# Altium footprint library tuya_.PcbLib: 14 footprints
Each footprint in its own frame and in the unit in brackets; x right, y up, seen from the top. Pads: shape width x height; smd on the part's side, far side on the other; paste and mask are expansions set on the pad; w line width, h text height; cw(c..) or ccw(c..) is an arc to the next point about the centre after c.
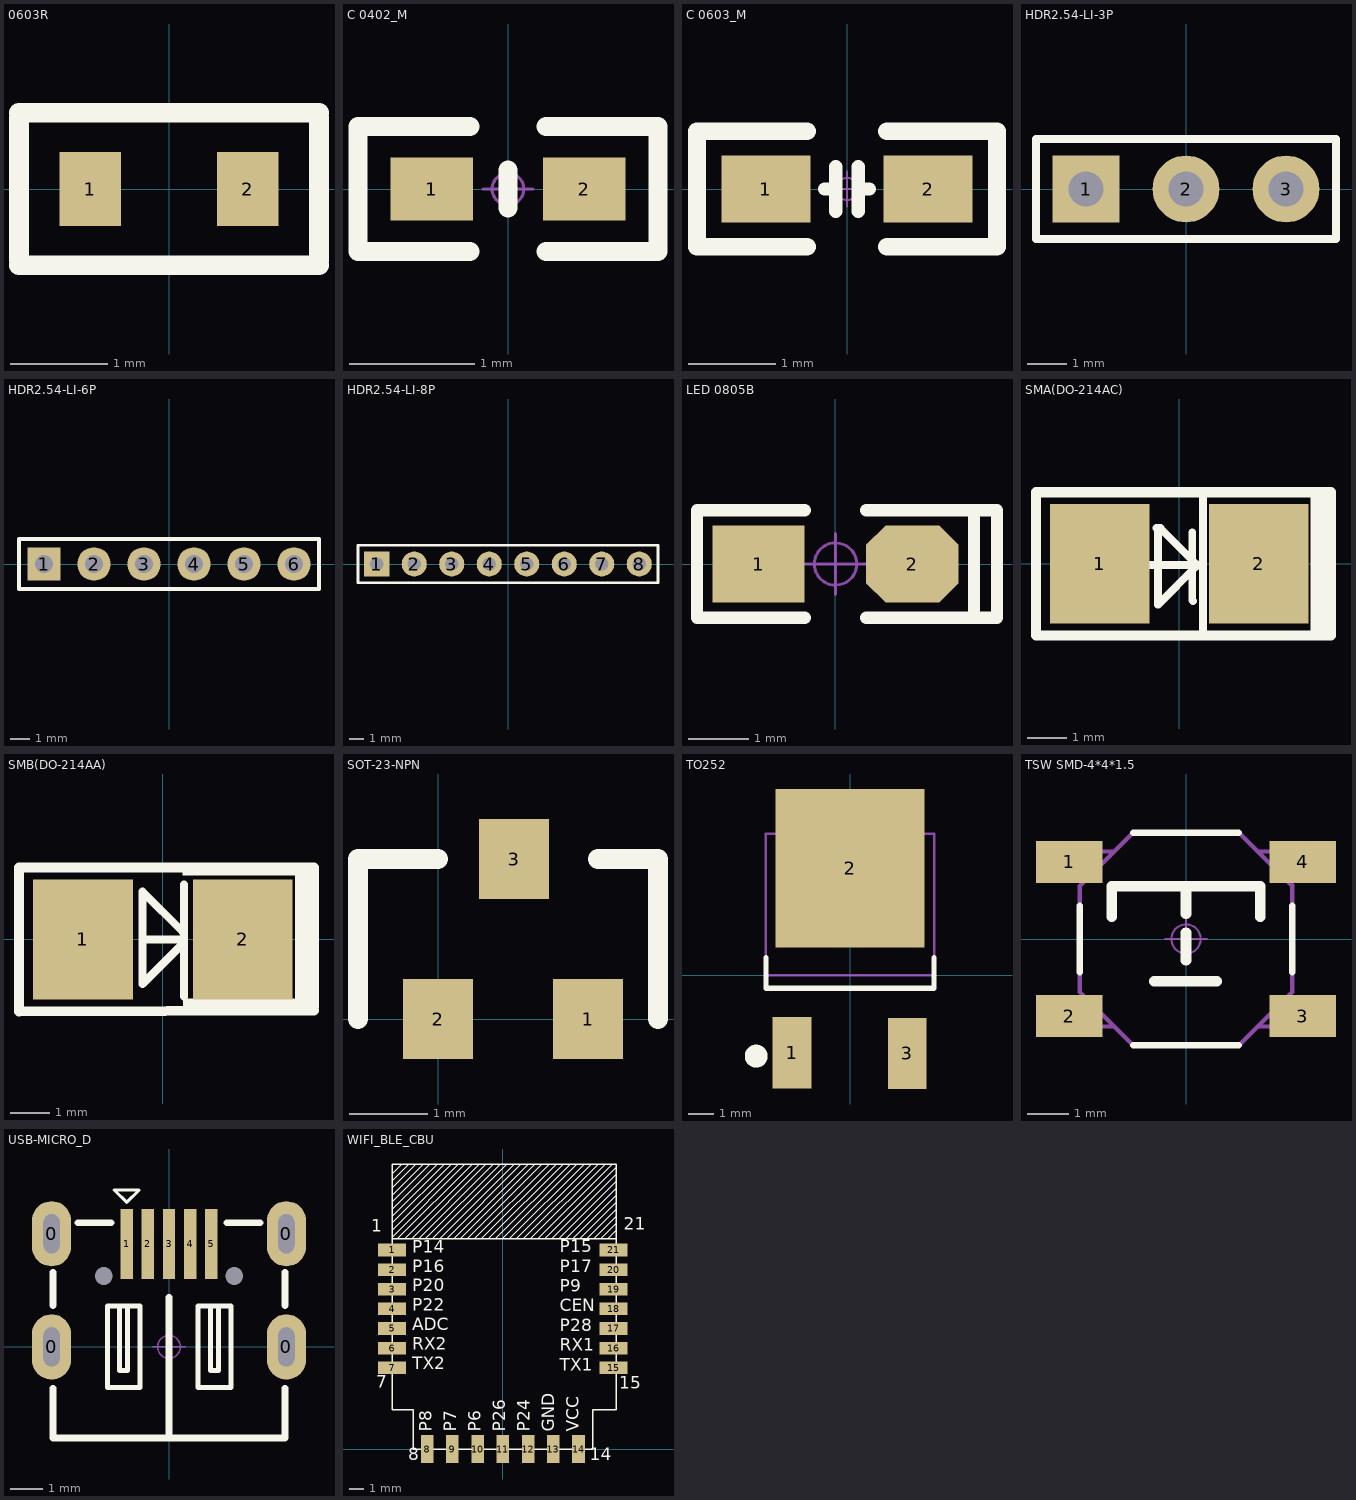
[diagram p0: the footprints below, top view; thin cyan lines are the x and y axes]

## 0603R [mil]
pads (2):
  rect 25x30 smd: 1(-32,0) 2(32,0)
Top Overlay:
  lines w8: -61,-31 13,-31 61,-31 ; -61,-29 -61,29 ; -61,31 13,31 61,31 ; 61,-29 61,29
3D body "R0603.STEP": height 17.72, standoff 0, extent -32.49,-15.74 30.5,15.75

## C 0402_M [mil] "无极性贴片电容"
pads (2):
  rect 26x20 smd: 1(-24,0) 2(24,0)
Top Overlay:
  lines w6: -12,-19.68 -47.24,-19.68 -47.24,19.68 -12,19.68 ; 0,-6 0,6 ; 12,-19.68 47.24,-19.68 47.24,19.68 12,19.68
Mechanical 15:
  circle w1: c0,0 r5
  lines w1: -7.87,0 7.87,0 ; 0,-7.87 0,7.87
3D body "C 0402.STEP": height 20.68, standoff 0.21, extent -19.69,-10.24 19.69,10.24

## C 0603_M [mil] "无极性贴片电容"
pads (2):
  rect 40x30 smd: 1(-36.5,0) 2(36.5,0)
Top Overlay:
  lines w6: -10,0 -5,0 ; -5,-10 -5,10 ; 5,-10 5,10 ; 5,0 10,0
  lines w8: -18,-26 -67.5,-26 -67.5,26 -18,26 ; 18,-26 67.5,-26 67.5,26 18,26
Mechanical 15:
  circle w1: c0,0 r5
  lines w1: -7.87,0 7.87,0 ; 0,-7.87 0,7.87
3D body "C 0603.STEP": height 31.89, standoff -0.39, extent -31.5,-16.14 31.5,16.14

## HDR2.54-LI-3P [mm] "排针，3脚"
pads (3):
  rect 1.7x1.7 hole 0.9: 1(-2.54,0)
  round 1.7 hole 0.9: 2(0,0) 3(2.54,0)
Top Overlay:
  lines w0.2: -3.81,-1.27 3.81,-1.27 3.81,1.27 -3.81,1.27 -3.81,-1.27
3D body "HDR2.54-1P.STEP": height 8.5, standoff -3, extent -3.81,-1.27 -1.27,1.27
3D body "HDR2.54-1P.STEP": height 8.5, standoff -3, extent -1.27,-1.27 1.27,1.27
3D body "HDR2.54-1P.STEP": height 8.5, standoff -3, extent 1.27,-1.27 3.81,1.27

## HDR2.54-LI-6P [mm] "排针，6脚"
pads (6):
  rect 1.7x1.7 hole 0.9: 1(-6.35,0)
  round 1.7 hole 0.9: 2(-3.81,0) 3(-1.27,0) 4(1.27,0) 5(3.81,0) 6(6.35,0)
Top Overlay:
  lines w0.2: -7.62,-1.27 7.62,-1.27 7.62,1.27 -7.62,1.27 -7.62,-1.27
3D body "HDR2.54-1P.STEP": height 8.5, standoff -3, extent -7.62,-1.27 -5.08,1.27
3D body "HDR2.54-1P.STEP": height 8.5, standoff -3, extent -5.08,-1.27 -2.54,1.27
3D body "HDR2.54-1P.STEP": height 8.5, standoff -3, extent -2.54,-1.27 0,1.27
3D body "HDR2.54-1P.STEP": height 8.5, standoff -3, extent 0,-1.27 2.54,1.27
3D body "HDR2.54-1P.STEP": height 8.5, standoff -3, extent 2.54,-1.27 5.08,1.27
3D body "HDR2.54-1P.STEP": height 8.5, standoff -3, extent 5.08,-1.27 7.62,1.27

## HDR2.54-LI-8P [mm] "排针，8脚"
pads (8):
  rect 1.7x1.7 hole 0.9: 1(-8.89,0)
  round 1.7 hole 0.9: 2(-6.35,0) 3(-3.81,0) 4(-1.27,0) 5(1.27,0) 6(3.81,0) 7(6.35,0) 8(8.89,0)
Top Overlay:
  lines w0.2: -10.16,-1.27 10.16,-1.27 10.16,1.27 -10.16,1.27 -10.16,-1.27
3D body "HDR2.54-1P.STEP": height 8.5, standoff -3, extent -10.16,-1.27 -7.62,1.27
3D body "HDR2.54-1P.STEP": height 8.5, standoff -3, extent -7.62,-1.27 -5.08,1.27
3D body "HDR2.54-1P.STEP": height 8.5, standoff -3, extent -5.08,-1.27 -2.54,1.27
3D body "HDR2.54-1P.STEP": height 8.5, standoff -3, extent -2.54,-1.27 0,1.27
3D body "HDR2.54-1P.STEP": height 8.5, standoff -3, extent 0,-1.27 2.54,1.27
3D body "HDR2.54-1P.STEP": height 8.5, standoff -3, extent 5.08,-1.27 7.62,1.27
3D body "HDR2.54-1P.STEP": height 8.5, standoff -3, extent 2.54,-1.27 5.08,1.27
3D body "HDR2.54-1P.STEP": height 8.5, standoff -3, extent 7.62,-1.27 10.16,1.27

## LED 0805B [mil] "蓝色0805LED"
pads (2):
  rect 60x50 smd: 1(-50,0)
  oct 60x50 smd: 2(50,0)
Top Overlay:
  lines w8: -20,-35 -90,-35 -90,35 -20,35 ; 20,-35 105,-35 105,35 20,35 ; 90,-35 90,35
Mechanical 15:
  circle w1.97: c0,0 r13.78
  lines w1.97: -19.68,0 19.68,0 ; 0,-19.68 0,19.68
3D body "LED 0805玻璃罩.STEP": height 31.69, standoff 12.01, extent -29.49,-24.65 29.49,24.65
3D body "LED 0805-B.STEP": height 26.33, standoff -0.16, extent -39.37,-24.65 39.37,24.65

## SMA(DO-214AC) [mm]
pads (2):
  rect 2.5x3 smd: 1(-2,0) 2(2,0)
Top Overlay:
  rectangle: 0.5,-1.799 0.7,1.801
  rectangle: 3.299,-1.838 3.939,1.832
  lines w0.2: -0.76,-0.03 0.424,-0.03 0.442,-0.048 ; 0.326,0.79 0.326,-0.911 0.344,-0.929 ; 0.442,-0.048 0.442,-0.021 -0.475,0.897 -0.573,0.897 -0.537,0.861 -0.537,-1.027 0.442,-0.048
  lines w0.254: 3.815,-1.8 -3.6,-1.8 -3.6,1.8 3.815,1.8
3D body "diode-smd-a.stp": height 2.35, standoff -0.01, extent -2.208,-1.38 2.462,1.27

## SMB(DO-214AA) [mm]
pads (2):
  rect 2.5x3 smd: 1(-2,0) 2(2,0)
Top Overlay:
  rectangle: 3.307,-1.733 3.907,1.821
  rectangle: 0.506,-1.68 3.406,-1.48
  rectangle: 0.498,1.602 3.698,1.802
  lines w0.025: 0.537,-0.037 0.544,-0.044
  lines w0.2: -0.508,0 0.533,0 ; 0.432,-0.178 -0.508,-1.118 -0.508,1.194 0.508,0.178 ; 0.533,-1.429 0.533,1.372
  lines w0.254: 3.774,-1.778 -3.6,-1.8 -3.6,1.8 3.774,1.8
3D body "diode-smd-a.stp": height 2.35, standoff -0.01, extent -2.284,-1.329 2.386,1.321

## SOT-23-NPN [mil]
pads (3):
  rect 35x40 smd: 1(75,0) 2(0,0) 3(38,80)
Top Overlay:
  lines w10: -40,0 -40,80 0,80 ; 80,80 110,80 110,0
3D body "sot23-3.STEP": height 39.37, standoff -0.79, extent -17.48,-17 97.48,80.48

## TO252 [mil] "252晶体管"
pads (3):
  rect 60x110 smd: 1(-89.55,-119.77) 3(88.45,-120.77)
  rect 230x245 smd: 2(0,165.35)
Top Overlay:
  circle w19.68: c-145,-125 r7.87
  lines w7.87: -130,27.56 -130,-20 130,-20 130,27.56
Mechanical 15:
  lines w3.94: -105.04,218.5 -105.04,236.06 -65.59,271.65 65.59,271.65 105.04,236.06 105.04,218.5 ; -130,0 130,0 130,218.5 -130,218.5 -130,0
3D body "TO252.STEP": height 90.55, standoff -0.2, extent -127.95,-120 127.95,250.84

## TSW SMD-4*4*1.5 [mm] "轻触开关，长宽高：4*4*1.5mm"
height 1.5
pads (4):
  rect 1.6x1 smd: 1(-2.8,1.85) 2(-2.8,-1.85) 3(2.8,-1.85) 4(2.8,1.85)
Top Overlay:
  lines w0.152: -2.55,-0.8 -2.55,0.8 ; -1.27,-2.55 1.27,-2.55 ; -1.27,2.55 1.27,2.55 ; 2.55,-0.8 2.55,0.8
  lines w0.254: -1.778,0.533 -1.778,1.27 1.778,1.27 1.778,0.533 ; -0.762,-1.016 0.737,-1.016 ; 0,-0.508 0,0.152 ; 0,0.61 0,1.27
Mechanical 15:
  circle w0.05: c0,0 r0.35
  lines w0.05: -0.5,0 0.5,0 ; 0,-0.5 0,0.5
  lines w0.1: -2.221,-1.6 -3.2,-1.6 -3.2,-2.1 -1.719,-2.1 ; -2.221,1.6 -3.2,1.6 -3.2,2.1 -1.719,2.1 ; 1.719,-2.1 3.2,-2.1 3.2,-1.6 2.221,-1.6 ; 1.719,2.1 3.2,2.1 3.2,1.6 2.221,1.6 ; 2.55,1.27 1.27,2.55 -1.27,2.55 -2.55,1.27 -2.55,-1.27 -1.27,-2.55 1.27,-2.55 2.55,-1.27 2.55,1.295
3D body "ts44h.stp": height 1.5, standoff 0, extent -3.204,-2.6 3.196,2.6

## USB-MICRO_D [mm] "micro型USB ，6.7*7.5*2.5mm"
pads (11):
  oval 1.2x2 hole 0.5 slot 1.2 at 90 deg: 0(-3.6,0) 0(-3.6,3.47) 0(3.6,0) 0(3.6,3.47)
  round 0 hole 0.55 unplated: 0(-2,2.17) 0(2,2.17)
  rect 0.381x2.15 smd: 1(-1.3,3.16) 2(-0.65,3.16) 3(0,3.16) 4(0.65,3.16) 5(1.3,3.16)
Top Overlay:
  lines w0.1: -1.681,4.811 -0.919,4.811 -1.3,4.43 -1.681,4.811
  lines w0.152: -1.524,1.257 -1.524,-0.728 -1.321,-0.728 -1.27,-0.728 -1.27,1.257 ; 1.27,1.257 1.27,-0.728 1.524,-0.728 1.524,1.257 ; -1.885,-1.243 -0.885,-1.243 -0.885,1.257 -1.885,1.257 -1.885,-1.243 ; 0.896,-1.243 0.896,1.257 1.896,1.257 1.896,-1.243 0.896,-1.243
  lines w0.203: -3.556,-1.27 -3.556,-2.794 3.556,-2.794 3.556,-1.27 ; -3.556,1.27 -3.556,2.286 ; -2.794,3.81 -1.778,3.81 ; 0,-2.75 0,1.524 ; 1.778,3.81 2.794,3.81 ; 3.556,1.27 3.556,2.286
Mechanical 15:
  circle w0.05: c0,0 r0.35
  lines w0.05: -0.5,0 0.5,0 ; 0,-0.5 0,0.5
3D body "USB micro_D.STEP": height 2.79, standoff -0.95, extent -3.985,-2.75 3.985,3.95

## WIFI_BLE_CBU [mm]
pads (21):
  rect 2x0.9 smd: 1(-7.9,14.2) 2(-7.9,12.8) 3(-7.9,11.4) 4(-7.9,10) 5(-7.9,8.6) 6(-7.9,7.2) 7(-7.9,5.8) 15(7.9,5.8) 16(7.9,7.2) 17(7.9,8.6) 18(7.9,10) 19(7.9,11.4) 20(7.9,12.8) 21(7.9,14.2)
  rect 0.9x2 smd: 8(-5.4,0) 9(-3.6,0) 10(-1.8,0) 11(0,0) 12(1.8,0) 13(3.6,0) 14(5.4,0)
Top Overlay:
  lines w0.051: -7.902,15.611 -3.194,20.319 ; -7.902,16.611 -4.189,20.324 ; -7.902,17.111 -4.693,20.32 ; -7.902,18.111 -5.689,20.324 ; -7.9,15.113 -2.703,20.31 ; -7.89,16.123 -3.723,20.29 ; -7.89,17.623 -5.197,20.316 ; -7.89,19.123 -6.709,20.304 ; -7.89,19.623 -7.213,20.3 ; -7.877,18.636 -6.205,20.308 ; -7.515,14.998 -2.199,20.314 ; -7.005,15.008 -1.682,20.331 ; -6.502,15.011 -1.216,20.297 ; -6.015,14.998 -0.687,20.326 ; -5.517,14.996 -0.195,20.318 ; -5.017,14.996 0.287,20.3 ; -4.517,14.996 0.762,20.275 ; -4.002,15.011 1.291,20.304 ; -3.517,14.996 1.795,20.308 ; -3.027,14.986 2.286,20.3 ; -2.527,14.986 2.79,20.304 ; -2.027,14.986 3.269,20.282 ; -1.527,14.986 3.811,20.324 ; -1.027,14.986 4.315,20.328 ; -0.527,14.986 4.806,20.32 ; -0.028,14.986 5.287,20.3 ; 0.472,14.986 5.776,20.289 ; 0.972,14.986 6.306,20.319 ; 1.472,14.986 6.81,20.323 ; 1.972,14.986 7.301,20.314 ; 2.472,14.986 7.78,20.293 ; 2.972,14.986 8.122,20.136 ; 3.483,14.996 8.098,19.611 ; 3.983,14.996 8.11,19.123 ; 4.483,14.996 8.123,18.636 ; 4.983,14.996 8.123,18.136 ; 5.483,14.996 8.123,17.636 ; 5.983,14.996 8.123,17.136 ; 6.483,14.996 8.11,16.623 ; 6.983,14.996 8.123,16.136 ; 7.483,14.996 8.135,15.648
  lines w0.1: -7.9,2.8 -7.9,20.301 ; -7.9,15 8.1,15 ; -7.9,20.3 8.1,20.3 8.1,2.8 ; -7.894,2.8 -6.4,2.8 -6.4,0 6.4,0 6.4,2.8 8.094,2.8
  text "P15" at 4.066,13.741 h1.5
  text "P17" at 4.066,12.323 h1.5
  text "P9" at 4.066,10.936 h1.5
  text "CEN" at 4.066,9.533 h1.5
  text "P28" at 4.066,8.128 h1.5
  text "RX1" at 4.066,6.711 h1.5
  text "TX1" at 4.066,5.309 h1.5
  text "GND" at 3.962,1.245 h1.5
  text "VCC" at 5.715,1.246 h1.5
  text "TX2" at -6.452,5.41 h1.5
  text "RX2" at -6.452,6.809 h1.5
  text "ADC" at -6.452,8.191 h1.5
  text "P22" at -6.452,9.573 h1.5
  text "P20" at -6.452,10.955 h1.5
  text "P16" at -6.452,12.322 h1.5
  text "P14" at -6.452,13.72 h1.5
  text "21" at 8.636,15.342 h1.5
  text "1" at -9.4,15.22 h1.5
  text "P24" at 2.194,1.245 h1.5
  text "P26" at 0.441,1.245 h1.5
  text "P6" at -1.307,1.245 h1.5
  text "P7" at -3.048,1.245 h1.5
  text "P8" at -4.801,1.245 h1.5
  text "7" at -9.044,4.069 h1.5
  text "8" at -6.756,-1.067 h1.5
  text "14" at 6.198,-1.067 h1.5
  text "15" at 8.306,4.013 h1.5
3D body: height 2.54, standoff 0, extent -7.493,3.048 7.747,14.732